# EAGLE library part MUSB-C111-* (library Jack-connectors)
Amphenol Rugged USB A Connector, Right Angle, PCB mount, Stacked
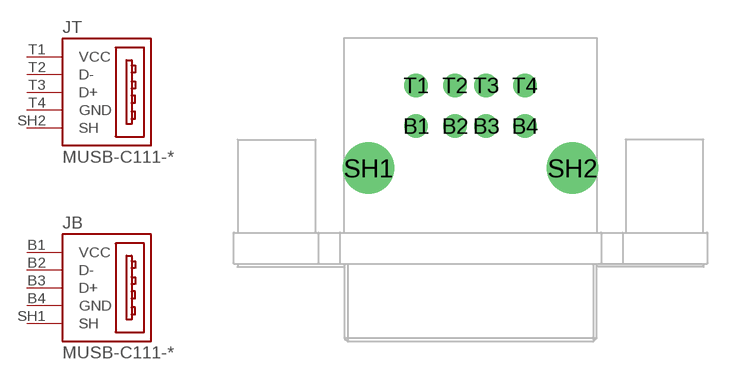
[diagram p19: symbol with the pads of MUSB-C111-XX; footprint MUSB-C111-XX]

Designator prefix J; gates T=USB_A B=USB_A

## MUSB-C111-30 (DESCRIPTION: USB A Rugged Connector, Right Angle, PCB mount, Stacked, #4-40 UNC thread, Without dust cover; PACK: MUSB-C111-xx), MUSB-C111-31 (DESCRIPTION: USB A Rugged Connector, Right Angle, PCB mount, Stacked, #4-40 UNC thread, Grey dust cover; PACK: MUSB-C111-xx), MUSB-C111-35 (DESCRIPTION: USB A Rugged Connector, Right Angle, PCB mount, Stacked, #4-40 UNC thread, Black dust cover; PACK: MUSB-C111-xx), MUSB-C111-M0 (DESCRIPTION: USB A Rugged Connector, Right Angle, PCB mount, Stacked, M3x0.5 thread, Without dust cover; PACK: MUSB-C111-xx), MUSB-C111-M1 (DESCRIPTION: USB A Rugged Connector, Right Angle, PCB mount, Stacked, M3x0.5 thread, Grey dust cover; PACK: MUSB-C111-xx), MUSB-C111-M5 (DESCRIPTION: USB A Rugged Connector, Right Angle, PCB mount, Stacked, M3x0.5 thread, Black dust cover; PACK: MUSB-C111-xx)  [MUSB-C111-XX]
B1  B:VCC  pas
B2  B:D-  pas
B3  B:D+  pas
B4  B:GND  pas
SH1  B:SH  pas
SH2  T:SH  pas
T1  T:VCC  pas
T2  T:D-  pas
T3  T:D+  pas
T4  T:GND  pas

## Footprint MUSB-C111-XX (pad centres in mm)
drill 1: B1 -3.5,2.71; B2 -1,2.71; B3 1,2.71; B4 3.5,2.71; T1 -3.5,5.33; T2 -1,5.33; T3 1,5.33; T4 3.5,5.33
drill 2.3: SH1 -6.57,0; SH2 6.57,0